# EAGLE library part HEADER-2X20P (library Connector)
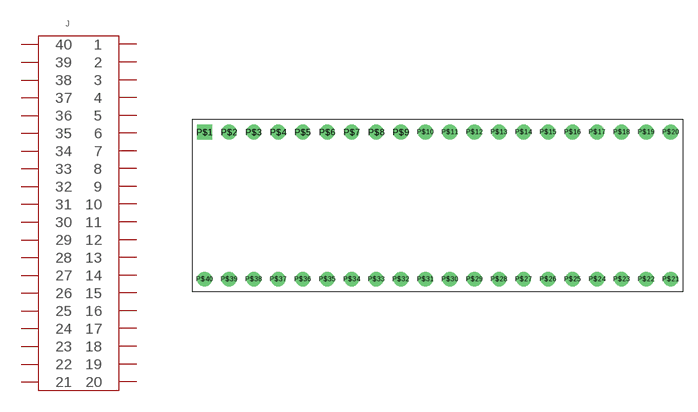
[diagram p12: symbol with the pads of 2X20P-2.54-DIP; footprint 2X20P-2.54-DIP]

Designator prefix J

## HEADER-2X20P-2.54  [2X20P-2.54-DIP]
P$1  1
P$2  2
P$3  3
P$4  4
P$5  5
P$6  6
P$7  7
P$8  8
P$9  9
P$10  10
P$11  11
P$12  12
P$13  13
P$14  14
P$15  15
P$16  16
P$17  17
P$18  18
P$19  19
P$20  20
P$21  21
P$22  22
P$23  23
P$24  24
P$25  25
P$26  26
P$27  27
P$28  28
P$29  29
P$30  30
P$31  31
P$32  32
P$33  33
P$34  34
P$35  35
P$36  36
P$37  37
P$38  38
P$39  39
P$40  40

## Footprint 2X20P-2.54-DIP (pad centres in mm)
drill 0.813 pad 1.524 square: P$1 -22.86,7.62
drill 0.813 pad 1.524 round: P$2 -20.32,7.62; P$3 -17.78,7.62; P$4 -15.24,7.62; P$5 -12.7,7.62; P$6 -10.16,7.62; P$7 -7.62,7.62; P$8 -5.08,7.62; P$9 -2.54,7.62; P$10 0,7.62; P$11 2.54,7.62; P$12 5.08,7.62; P$13 7.62,7.62; P$14 10.16,7.62; P$15 12.7,7.62; P$16 15.24,7.62; P$17 17.78,7.62; P$18 20.32,7.62; P$19 22.86,7.62; P$20 25.4,7.62; P$21 25.4,-7.62; P$22 22.86,-7.62; P$23 20.32,-7.62; P$24 17.78,-7.62; P$25 15.24,-7.62; P$26 12.7,-7.62; P$27 10.16,-7.62; P$28 7.62,-7.62; P$29 5.08,-7.62; P$30 2.54,-7.62; P$31 0,-7.62; P$32 -2.54,-7.62; P$33 -5.08,-7.62; P$34 -7.62,-7.62; P$35 -10.16,-7.62; P$36 -12.7,-7.62; P$37 -15.24,-7.62; P$38 -17.78,-7.62; P$39 -20.32,-7.62; P$40 -22.86,-7.62